# EAGLE library part IRF7425 (library zz-m-pad-2.1)
International Rectifier's IRF7425 HEXFET® Power MOSFET Description: These P-Channel MOSFETs from International Rectifier utilize advanced processing techniques to achieve the extremely low on-resistance per silicon area. This benefit provides the designer with an extremely efficient device for use in battery and load management applications.. The SO-8 has been modified through a customized leadframe for enhanced thermal characteristics and multiple-die capability making it ideal in a variety of power applications. With these improvements, multiple devices can be used in an application with dramatically reduced board space. The package is designed for vapor phase, infrared, or wave soldering techniques. Features: Ultra Low On-Resistance P Channel MOSFET Surface Mount Available in Tape & Reel Please send any comments to: messi@users.sourceforge.net
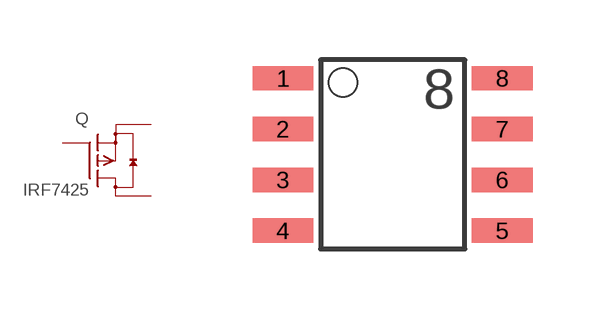
[diagram p112: symbol with the pads of SO-8; footprint SO-8]

Designator prefix Q

## IRF7425  [SO-8]
1  S  pas
2  S  pas
3  S  pas
4  G  pas
5  D  pas
6  D  pas
7  D  pas
8  D  pas

## Footprint SO-8 (pad centres in mm)
small outline
smd 1.524 x 0.61: 1 -2.743,1.27; 2 -2.743,0; 3 -2.743,-1.27; 4 -2.743,-2.54; 5 2.743,-2.54; 6 2.743,-1.27; 7 2.743,0; 8 2.743,1.27